# Altium integrated library IR Rectifier - Schottky.IntLib: 340 symbols (part 3 of 6)
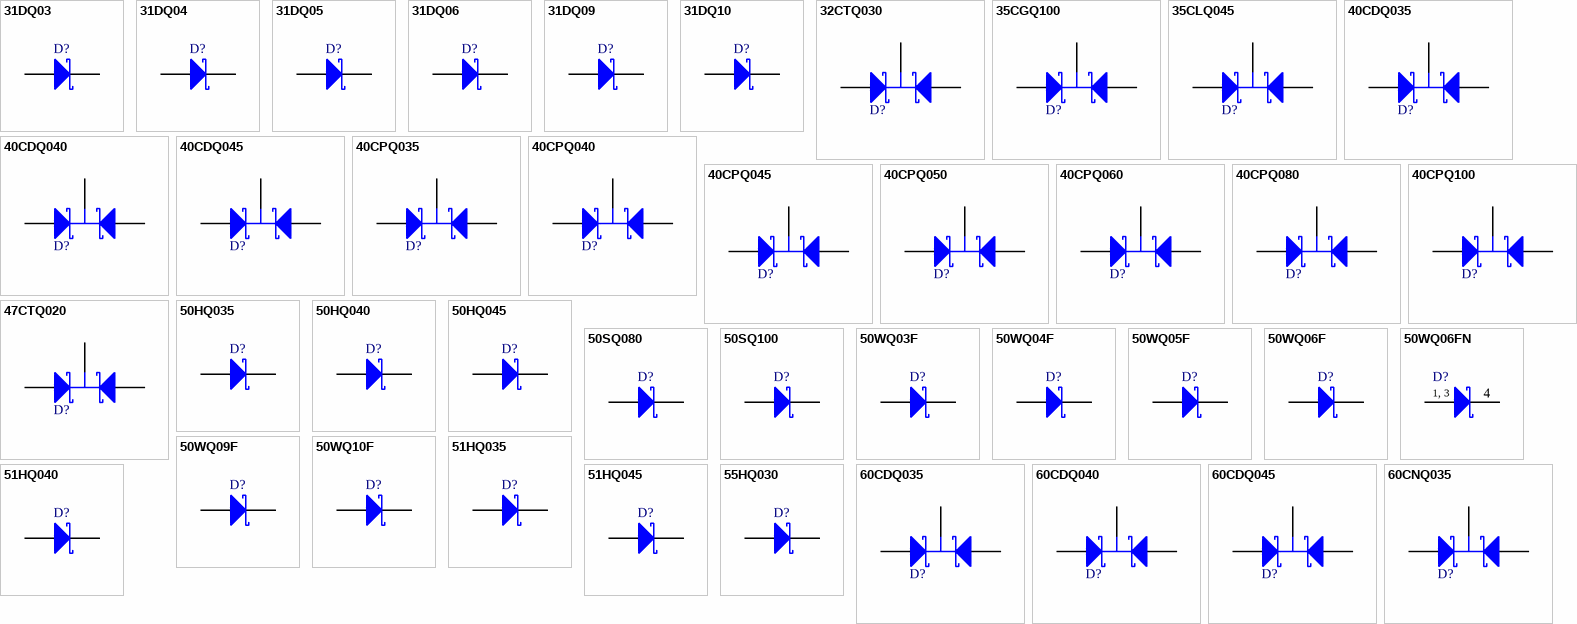
[diagram p10: symbols 31DQ03 to 60CNQ035]

## 40CDQ040
designator D?
Schottky Rectifier; Published: 8-Jun-2000; LatestRevisionDate: 17-Jul-2002; LatestRevisionNote: Re-released for DXP Platform.; DatasheetVersion: Dec-1997; PackageVersion: Dec-1997; PackageReference: TO-204AA; Publisher: Altium Limited; PackageDescription: Oval Flange Mount with (2) Offset Leads; Pin Spacing 10.92 mm; Lead Dia. 1.07 mm (max); Code_JEDEC: TO-204AA; ComponentLink1Description: Manufacturer Link; ComponentLink1URL: http://www.irf.com/; ComponentLink2Description: Datasheet; ComponentLink2URL: http://www.irf.com/product-info/datasheets/data/40cdq.pdf
footprint TO-204AA (Oval Flange Mount with (2) Offset Leads; Pin Spacing 10.92 mm; Lead Dia. 1.07 mm (max))
simulation model 40CDQ040 (SUBCKT)
signal-integrity model 40CDQ040
pins: 1 A1, 2 A2, 3 K

## 40CDQ045
designator D?
Schottky Rectifier; Published: 8-Jun-2000; LatestRevisionDate: 17-Jul-2002; LatestRevisionNote: Re-released for DXP Platform.; DatasheetVersion: Dec-1997; PackageVersion: Dec-1997; PackageReference: TO-204AA; Publisher: Altium Limited; PackageDescription: Oval Flange Mount with (2) Offset Leads; Pin Spacing 10.92 mm; Lead Dia. 1.07 mm (max); Code_JEDEC: TO-204AA; ComponentLink1Description: Manufacturer Link; ComponentLink1URL: http://www.irf.com/; ComponentLink2Description: Datasheet; ComponentLink2URL: http://www.irf.com/product-info/datasheets/data/40cdq.pdf
footprint TO-204AA (Oval Flange Mount with (2) Offset Leads; Pin Spacing 10.92 mm; Lead Dia. 1.07 mm (max))
simulation model 40CDQ045 (SUBCKT)
signal-integrity model 40CDQ045
pins: 1 A1, 2 A2, 3 K

## 40CPQ035
designator D?
Schottky Rectifier; Published: 8-Jun-2000; LatestRevisionDate: 17-Jul-2002; LatestRevisionNote: Re-released for DXP Platform.; DatasheetVersion: Dec-1997; PackageVersion: Aug-1997; PackageReference: TO-247AC; Publisher: Altium Limited; PackageDescription: SIP with Mounting Hole; 3 Leads; Body 20 x 15.6 x 5 mm (typ); Pitch 5.45 mm; Code_JEDEC: TO-247-AC; ComponentLink1Description: Manufacturer Link; ComponentLink1URL: http://www.irf.com/; ComponentLink2Description: Datasheet; ComponentLink2URL: http://www.irf.com/product-info/datasheets/data/40cpq035.pdf
footprint TO-247AC (SIP with Mounting Hole; 3 Leads; Body 20 x 15.6 x 5 mm (typ); Pitch 5.45 mm)
signal-integrity model 40CPQ035
pins: 1 A1, 2 K, 3 A2

## 40CPQ040
designator D?
Schottky Rectifier; Published: 8-Jun-2000; LatestRevisionDate: 17-Jul-2002; LatestRevisionNote: Re-released for DXP Platform.; DatasheetVersion: Dec-1997; PackageVersion: Aug-1997; PackageReference: TO-247AC; Publisher: Altium Limited; PackageDescription: SIP with Mounting Hole; 3 Leads; Body 20 x 15.6 x 5 mm (typ); Pitch 5.45 mm; Code_JEDEC: TO-247-AC; ComponentLink1Description: Manufacturer Link; ComponentLink1URL: http://www.irf.com/; ComponentLink2Description: Datasheet; ComponentLink2URL: http://www.irf.com/product-info/datasheets/data/40cpq035.pdf
footprint TO-247AC (SIP with Mounting Hole; 3 Leads; Body 20 x 15.6 x 5 mm (typ); Pitch 5.45 mm)
signal-integrity model 40CPQ040
pins: 1 A1, 2 K, 3 A2

## 40CPQ045
designator D?
Schottky Rectifier; Published: 8-Jun-2000; LatestRevisionDate: 17-Jul-2002; LatestRevisionNote: Re-released for DXP Platform.; DatasheetVersion: Dec-1997; PackageVersion: Aug-1997; PackageReference: TO-247AC; Publisher: Altium Limited; PackageDescription: SIP with Mounting Hole; 3 Leads; Body 20 x 15.6 x 5 mm (typ); Pitch 5.45 mm; Code_JEDEC: TO-247-AC; ComponentLink1Description: Manufacturer Link; ComponentLink1URL: http://www.irf.com/; ComponentLink2Description: Datasheet; ComponentLink2URL: http://www.irf.com/product-info/datasheets/data/40cpq035.pdf
footprint TO-247AC (SIP with Mounting Hole; 3 Leads; Body 20 x 15.6 x 5 mm (typ); Pitch 5.45 mm)
signal-integrity model 40CPQ045
pins: 1 A1, 2 K, 3 A2

## 40CPQ050
designator D?
Schottky Rectifier; Published: 8-Jun-2000; LatestRevisionDate: 17-Jul-2002; LatestRevisionNote: Re-released for DXP Platform.; DatasheetVersion: Dec-1997; PackageVersion: Aug-1997; PackageReference: TO-247AC; Publisher: Altium Limited; PackageDescription: SIP with Mounting Hole; 3 Leads; Body 20 x 15.6 x 5 mm (typ); Pitch 5.45 mm; Code_JEDEC: TO-247-AC; ComponentLink1Description: Manufacturer Link; ComponentLink1URL: http://www.irf.com/; ComponentLink2Description: Datasheet; ComponentLink2URL: http://www.irf.com/product-info/datasheets/data/40cpq050.pdf
footprint TO-247AC (SIP with Mounting Hole; 3 Leads; Body 20 x 15.6 x 5 mm (typ); Pitch 5.45 mm)
signal-integrity model 40CPQ050
pins: 1 A1, 2 K, 3 A2

## 40CPQ060
designator D?
Schottky Rectifier; Published: 8-Jun-2000; LatestRevisionDate: 17-Jul-2002; LatestRevisionNote: Re-released for DXP Platform.; DatasheetVersion: Dec-1997; PackageVersion: Aug-1997; PackageReference: TO-247AC; Publisher: Altium Limited; PackageDescription: SIP with Mounting Hole; 3 Leads; Body 20 x 15.6 x 5 mm (typ); Pitch 5.45 mm; Code_JEDEC: TO-247-AC; ComponentLink1Description: Manufacturer Link; ComponentLink1URL: http://www.irf.com/; ComponentLink2Description: Datasheet; ComponentLink2URL: http://www.irf.com/product-info/datasheets/data/40cpq050.pdf
footprint TO-247AC (SIP with Mounting Hole; 3 Leads; Body 20 x 15.6 x 5 mm (typ); Pitch 5.45 mm)
simulation model 40CPQ060 (SUBCKT)
signal-integrity model 40CPQ060
pins: 1 A1, 2 K, 3 A2

## 40CPQ080
designator D?
Schottky Rectifier; Published: 8-Jun-2000; LatestRevisionDate: 17-Jul-2002; LatestRevisionNote: Re-released for DXP Platform.; DatasheetVersion: Dec-1997; PackageVersion: Aug-1997; PackageReference: TO-247AC; Publisher: Altium Limited; PackageDescription: SIP with Mounting Hole; 3 Leads; Body 20 x 15.6 x 5 mm (typ); Pitch 5.45 mm; Code_JEDEC: TO-247-AC; ComponentLink1Description: Manufacturer Link; ComponentLink1URL: http://www.irf.com/; ComponentLink2Description: Datasheet; ComponentLink2URL: http://www.irf.com/product-info/datasheets/data/40cpq080.pdf
footprint TO-247AC (SIP with Mounting Hole; 3 Leads; Body 20 x 15.6 x 5 mm (typ); Pitch 5.45 mm)
signal-integrity model 40CPQ080
pins: 1 A1, 2 K, 3 A2

## 40CPQ100
designator D?
Schottky Rectifier; Published: 8-Jun-2000; LatestRevisionDate: 17-Jul-2002; LatestRevisionNote: Re-released for DXP Platform.; DatasheetVersion: Dec-1997; PackageVersion: Aug-1997; PackageReference: TO-247AC; Publisher: Altium Limited; PackageDescription: SIP with Mounting Hole; 3 Leads; Body 20 x 15.6 x 5 mm (typ); Pitch 5.45 mm; Code_JEDEC: TO-247-AC; ComponentLink1Description: Manufacturer Link; ComponentLink1URL: http://www.irf.com/; ComponentLink2Description: Datasheet; ComponentLink2URL: http://www.irf.com/product-info/datasheets/data/40cpq080.pdf
footprint TO-247AC (SIP with Mounting Hole; 3 Leads; Body 20 x 15.6 x 5 mm (typ); Pitch 5.45 mm)
signal-integrity model 40CPQ100
pins: 1 A1, 2 K, 3 A2

## 47CTQ020
designator D?
Schottky Rectifier; Note: Pin 2 (cathode) is electrically connected to TAB; Published: 8-Jun-2000; LatestRevisionDate: 17-Jul-2002; LatestRevisionNote: Re-released for DXP Platform.; DatasheetVersion: May-1999; PackageVersion: Feb-1997; PackageReference: TO-220AB; Publisher: Altium Limited; PackageDescription: TO, Thru-Hole, Vertical, Heatsink Mounted; 3 In-Line Leads; Pitch 2.54 mm; ComponentLink1Description: Manufacturer Link; ComponentLink1URL: http://www.irf.com/; ComponentLink2Description: Datasheet; ComponentLink2URL: http://www.irf.com/product-info/datasheets/data/47ctq020.pdf
footprint TO-220AB (TO, Thru-Hole, Vertical, Heatsink Mounted; 3 In-Line Leads; Pitch 2.54 mm)
signal-integrity model 47CTQ020
pins: 1 A1, 2 K, 3 A2

## 50HQ035
designator D?
Schottky Rectifier; Note: No PCB Footprint Available; Published: 8-Jun-2000; LatestRevisionDate: 17-Jul-2002; LatestRevisionNote: Re-released for DXP Platform.; DatasheetVersion: Dec-1997; PackageReference: DO-203AB; Publisher: Altium Limited; ComponentLink1Description: Manufacturer Link; ComponentLink1URL: http://www.irf.com/; ComponentLink2Description: Datasheet; ComponentLink2URL: http://www.irf.com/product-info/datasheets/data/50hq.pdf
simulation model 50HQ035 (DIODE)
signal-integrity model 50HQ035
pins: 1 A, 2 K

## 50HQ040
designator D?
Schottky Rectifier; Note: No PCB Footprint Available; Published: 8-Jun-2000; LatestRevisionDate: 17-Jul-2002; LatestRevisionNote: Re-released for DXP Platform.; DatasheetVersion: Dec-1997; PackageReference: DO-203AB; Publisher: Altium Limited; ComponentLink1Description: Manufacturer Link; ComponentLink1URL: http://www.irf.com/; ComponentLink2Description: Datasheet; ComponentLink2URL: http://www.irf.com/product-info/datasheets/data/50hq.pdf
simulation model 50HQ040 (DIODE)
signal-integrity model 50HQ040
pins: 1 A, 2 K

## 50HQ045
designator D?
Schottky Rectifier; Note: No PCB Footprint Available; Published: 8-Jun-2000; LatestRevisionDate: 17-Jul-2002; LatestRevisionNote: Re-released for DXP Platform.; DatasheetVersion: Dec-1997; PackageReference: DO-203AB; Publisher: Altium Limited; ComponentLink1Description: Manufacturer Link; ComponentLink1URL: http://www.irf.com/; ComponentLink2Description: Datasheet; ComponentLink2URL: http://www.irf.com/product-info/datasheets/data/50hq.pdf
simulation model 50HQ045 (DIODE)
signal-integrity model 50HQ045
pins: 1 A, 2 K

## 50SQ080
designator D?
Schottky Rectifier; Published: 8-Jun-2000; LatestRevisionDate: 17-Jul-2002; LatestRevisionNote: Re-released for DXP Platform.; DatasheetVersion: Nov-1997; PackageReference: DO-204AR; Publisher: Altium Limited; PackageDescription: Diode, Axial; Body 9.5 x 6.4 mm (LxDia. max), Lead Dia. 1.32 mm (max); Code_JEDEC: DO-204-AR; ComponentLink1Description: Manufacturer Link; ComponentLink1URL: http://www.irf.com/; ComponentLink2Description: Datasheet; ComponentLink2URL: http://www.irf.com/product-info/datasheets/data/50sq.pdf
footprint DO-204AR (Diode, Axial; Body 9.5 x 6.4 mm (LxDia. max), Lead Dia. 1.32 mm (max))
signal-integrity model 50SQ080
pins: 1 A, 2 K

## 50SQ100
designator D?
Schottky Rectifier; Published: 8-Jun-2000; LatestRevisionDate: 17-Jul-2002; LatestRevisionNote: Re-released for DXP Platform.; DatasheetVersion: Nov-1997; PackageReference: DO-204AR; Publisher: Altium Limited; PackageDescription: Diode, Axial; Body 9.5 x 6.4 mm (LxDia. max), Lead Dia. 1.32 mm (max); Code_JEDEC: DO-204-AR; ComponentLink1Description: Manufacturer Link; ComponentLink1URL: http://www.irf.com/; ComponentLink2Description: Datasheet; ComponentLink2URL: http://www.irf.com/product-info/datasheets/data/50sq.pdf
footprint DO-204AR (Diode, Axial; Body 9.5 x 6.4 mm (LxDia. max), Lead Dia. 1.32 mm (max))
signal-integrity model 50SQ100
pins: 1 A, 2 K

## 50WQ03F
designator D?
Schottky Rectifier; Note: Pin 2 (cathode) is trimmed but is electrically connected to Terminal 4 (BASE); Pin 1 is not connected and not drawn; Published: 8-Jun-2000; LatestRevisionDate: 17-Jul-2002; LatestRevisionNote: Re-released for DXP Platform.; DatasheetVersion: Dec-1997; PackageVersion: Dec-1997; PackageReference: TO-252AA_A; Publisher: Altium Limited; PackageDescription: 3-Pin Transistor Outline Package 2.28 mm Pitch, 9.8 mm Lead Span; ComponentLink1Description: Manufacturer Link; ComponentLink1URL: http://www.irf.com/; ComponentLink2Description: Datasheet; ComponentLink2URL: http://www.irf.com/product-info/datasheets/data/50wq04f.pdf
footprint TO-252AA_A_N (D-PAK, 4-Leads, Body 6.1x6.6mm, Pitch 2.28mm, Lead Span 9.8mm, IPC Medium Density)
footprint TO-252AA_A_L (D-PAK, 4-Leads, Body 6.1x6.6mm, Pitch 2.28mm, Lead Span 9.8mm, IPC High Density)
footprint TO-252AA_A_M (D-PAK, 4-Leads, Body 6.1x6.6mm, Pitch 2.28mm, Lead Span 9.8mm, IPC Low Density)
simulation model 50WQ03F (DIODE)
signal-integrity model 50WQ03F
pins: 3 A, 4 K

## 50WQ04F
designator D?
Schottky Rectifier; Note: Pin 2 (cathode) is trimmed but is electrically connected to Terminal 4 (BASE); Pin 1 is not connected and not drawn; Published: 8-Jun-2000; LatestRevisionDate: 17-Jul-2002; LatestRevisionNote: Re-released for DXP Platform.; DatasheetVersion: Dec-1997; PackageVersion: Dec-1997; PackageReference: TO-252AA_A; Publisher: Altium Limited; PackageDescription: 3-Pin Transistor Outline Package 2.28 mm Pitch, 9.8 mm Lead Span; ComponentLink1Description: Manufacturer Link; ComponentLink1URL: http://www.irf.com/; ComponentLink2Description: Datasheet; ComponentLink2URL: http://www.irf.com/product-info/datasheets/data/50wq04f.pdf
footprint TO-252AA_A_N (D-PAK, 4-Leads, Body 6.1x6.6mm, Pitch 2.28mm, Lead Span 9.8mm, IPC Medium Density)
footprint TO-252AA_A_L (D-PAK, 4-Leads, Body 6.1x6.6mm, Pitch 2.28mm, Lead Span 9.8mm, IPC High Density)
footprint TO-252AA_A_M (D-PAK, 4-Leads, Body 6.1x6.6mm, Pitch 2.28mm, Lead Span 9.8mm, IPC Low Density)
simulation model 50WQ04F (DIODE)
signal-integrity model 50WQ04F
pins: 3 A, 4 K

## 50WQ05F
designator D?
Schottky Rectifier; Note: Pin 2 (cathode) is trimmed but is electrically connected to Terminal 4 (BASE); Pin 1 is not connected and not drawn; Published: 8-Jun-2000; LatestRevisionDate: 17-Jul-2002; LatestRevisionNote: Re-released for DXP Platform.; DatasheetVersion: Dec-1997; PackageVersion: Dec-1997; PackageReference: TO-252AA_A; Publisher: Altium Limited; PackageDescription: 3-Pin Transistor Outline Package 2.28 mm Pitch, 9.8 mm Lead Span; ComponentLink1Description: Manufacturer Link; ComponentLink1URL: http://www.irf.com/; ComponentLink2Description: Datasheet; ComponentLink2URL: http://www.irf.com/product-info/datasheets/data/50wq06f.pdf
footprint TO-252AA_A_N (D-PAK, 4-Leads, Body 6.1x6.6mm, Pitch 2.28mm, Lead Span 9.8mm, IPC Medium Density)
footprint TO-252AA_A_L (D-PAK, 4-Leads, Body 6.1x6.6mm, Pitch 2.28mm, Lead Span 9.8mm, IPC High Density)
footprint TO-252AA_A_M (D-PAK, 4-Leads, Body 6.1x6.6mm, Pitch 2.28mm, Lead Span 9.8mm, IPC Low Density)
simulation model 50WQ05F (DIODE)
signal-integrity model 50WQ05F
pins: 3 A, 4 K

## 50WQ06F
designator D?
Schottky Rectifier; Note: Pin 2 (cathode) is trimmed but is electrically connected to Terminal 4 (BASE); Pin 1 is not connected and not drawn; Published: 8-Jun-2000; LatestRevisionDate: 17-Jul-2002; LatestRevisionNote: Re-released for DXP Platform.; DatasheetVersion: Dec-1997; PackageVersion: Dec-1997; PackageReference: TO-252AA_A; Publisher: Altium Limited; PackageDescription: 3-Pin Transistor Outline Package 2.28 mm Pitch, 9.8 mm Lead Span; ComponentLink1Description: Manufacturer Link; ComponentLink1URL: http://www.irf.com/; ComponentLink2Description: Datasheet; ComponentLink2URL: http://www.irf.com/product-info/datasheets/data/50wq06f.pdf
footprint TO-252AA_A_N (D-PAK, 4-Leads, Body 6.1x6.6mm, Pitch 2.28mm, Lead Span 9.8mm, IPC Medium Density)
footprint TO-252AA_A_L (D-PAK, 4-Leads, Body 6.1x6.6mm, Pitch 2.28mm, Lead Span 9.8mm, IPC High Density)
footprint TO-252AA_A_M (D-PAK, 4-Leads, Body 6.1x6.6mm, Pitch 2.28mm, Lead Span 9.8mm, IPC Low Density)
simulation model 50WQ06F (DIODE)
signal-integrity model 50WQ06F
pins: 3 A, 4 K

## 50WQ06FN
designator D?
Schottky Rectifier; Note: Pin 2 is trimmed and not drawn; Published: 17-Sep-2003; LatestRevisionDate: 06-Jun-2005; LatestRevisionNote: Sch symbol re-drawn; DatasheetVersion: revE, Mar-2003; PackageVersion: Feb-2003; PackageReference: TO-252AA; Publisher: Altium Limited; PackageDescription: 3-Pin HEXFET Package 2.28 mm Pitch, 9.9 mm Lead Span; Code_JEDEC: TO-252-AA; ComponentLink1Description: Manufacturer Link; ComponentLink1URL: http://www.irf.com/; ComponentLink2Description: Datasheet; ComponentLink2URL: http://www.irf.com/product-info/datasheets/data/50WQ06FN.pdf
footprint TO-252AA_N (D-PAK, 4-Leads, Body 6.1x6.5mm, Pitch 2.28mm, Lead Span 9.9mm, IPC Medium Density)
footprint TO-252AA_L (D-PAK, 4-Leads, Body 6.1x6.5mm, Pitch 2.28mm, Lead Span 9.9mm, IPC High Density)
footprint TO-252AA_M (D-PAK, 4-Leads, Body 6.1x6.5mm, Pitch 2.28mm, Lead Span 9.9mm, IPC Low Density)
simulation model 50WQ06FN (SUBCKT)
pins: 1 A, 3 A, 4 K
text: 1, 3

## 50WQ09F
designator D?
Schottky Rectifier; Note: Pin 2 (cathode) is trimmed but is electrically connected to Terminal 4 (BASE); Pin 1 is not connected and not drawn; Published: 8-Jun-2000; LatestRevisionDate: 17-Jul-2002; LatestRevisionNote: Re-released for DXP Platform.; DatasheetVersion: Dec-1997; PackageVersion: Dec-1997; PackageReference: TO-252AA_A; Publisher: Altium Limited; PackageDescription: 3-Pin Transistor Outline Package 2.28 mm Pitch, 9.8 mm Lead Span; ComponentLink1Description: Manufacturer Link; ComponentLink1URL: http://www.irf.com/; ComponentLink2Description: Datasheet; ComponentLink2URL: http://www.irf.com/product-info/datasheets/data/50wq10f.pdf
footprint TO-252AA_A_N (D-PAK, 4-Leads, Body 6.1x6.6mm, Pitch 2.28mm, Lead Span 9.8mm, IPC Medium Density)
footprint TO-252AA_A_L (D-PAK, 4-Leads, Body 6.1x6.6mm, Pitch 2.28mm, Lead Span 9.8mm, IPC High Density)
footprint TO-252AA_A_M (D-PAK, 4-Leads, Body 6.1x6.6mm, Pitch 2.28mm, Lead Span 9.8mm, IPC Low Density)
simulation model 50WQ09F (DIODE)
signal-integrity model 50WQ09F
pins: 3 A, 4 K

## 50WQ10F
designator D?
Schottky Rectifier; Note: Pin 2 (cathode) is trimmed but is electrically connected to Terminal 4 (BASE); Pin 1 is not connected and not drawn; Published: 8-Jun-2000; LatestRevisionDate: 17-Jul-2002; LatestRevisionNote: Re-released for DXP Platform.; DatasheetVersion: Dec-1997; PackageVersion: Dec-1997; PackageReference: TO-252AA_A; Publisher: Altium Limited; PackageDescription: 3-Pin Transistor Outline Package 2.28 mm Pitch, 9.8 mm Lead Span; ComponentLink1Description: Manufacturer Link; ComponentLink1URL: http://www.irf.com/; ComponentLink2Description: Datasheet; ComponentLink2URL: http://www.irf.com/product-info/datasheets/data/50wq10f.pdf
footprint TO-252AA_A_N (D-PAK, 4-Leads, Body 6.1x6.6mm, Pitch 2.28mm, Lead Span 9.8mm, IPC Medium Density)
footprint TO-252AA_A_L (D-PAK, 4-Leads, Body 6.1x6.6mm, Pitch 2.28mm, Lead Span 9.8mm, IPC High Density)
footprint TO-252AA_A_M (D-PAK, 4-Leads, Body 6.1x6.6mm, Pitch 2.28mm, Lead Span 9.8mm, IPC Low Density)
simulation model 50WQ10F (DIODE)
signal-integrity model 50WQ10F
pins: 3 A, 4 K

## 51HQ035
designator D?
Schottky Rectifier; Note: No PCB Footprint Available; Published: 8-Jun-2000; LatestRevisionDate: 17-Jul-2002; LatestRevisionNote: Re-released for DXP Platform.; DatasheetVersion: Dec-1997; PackageReference: DO-203AB; Publisher: Altium Limited; ComponentLink1Description: Manufacturer Link; ComponentLink1URL: http://www.irf.com/; ComponentLink2Description: Datasheet; ComponentLink2URL: http://www.irf.com/product-info/datasheets/data/51hq.pdf
simulation model 51HQ035 (DIODE)
signal-integrity model 51HQ035
pins: 1 A, 2 K

## 51HQ040
designator D?
Schottky Rectifier; Note: No PCB Footprint Available; Published: 8-Jun-2000; LatestRevisionDate: 17-Jul-2002; LatestRevisionNote: Re-released for DXP Platform.; DatasheetVersion: Dec-1997; PackageReference: DO-203AB; Publisher: Altium Limited; ComponentLink1Description: Manufacturer Link; ComponentLink1URL: http://www.irf.com/; ComponentLink2Description: Datasheet; ComponentLink2URL: http://www.irf.com/product-info/datasheets/data/51hq.pdf
simulation model 51HQ040 (DIODE)
signal-integrity model 51HQ040
pins: 1 A, 2 K

## 51HQ045
designator D?
Schottky Rectifier; Note: No PCB Footprint Available; Published: 8-Jun-2000; LatestRevisionDate: 17-Jul-2002; LatestRevisionNote: Re-released for DXP Platform.; DatasheetVersion: Dec-1997; PackageReference: DO-203AB; Publisher: Altium Limited; ComponentLink1Description: Manufacturer Link; ComponentLink1URL: http://www.irf.com/; ComponentLink2Description: Datasheet; ComponentLink2URL: http://www.irf.com/product-info/datasheets/data/51hq.pdf
simulation model 51HQ045 (DIODE)
signal-integrity model 51HQ045
pins: 1 A, 2 K

## 55HQ030
designator D?
Schottky Rectifier; Note: No PCB Footprint Available; Published: 8-Jun-2000; LatestRevisionDate: 17-Jul-2002; LatestRevisionNote: Re-released for DXP Platform.; DatasheetVersion: Dec-1997; PackageReference: DO-203AB; Publisher: Altium Limited; ComponentLink1Description: Manufacturer Link; ComponentLink1URL: http://www.irf.com/; ComponentLink2Description: Datasheet; ComponentLink2URL: http://www.irf.com/product-info/datasheets/data/55hq030.pdf
simulation model 55HQ030 (DIODE)
signal-integrity model 55HQ030
pins: 1 A, 2 K

## 60CDQ035
designator D?
Schottky Rectifier; Published: 8-Jun-2000; LatestRevisionDate: 17-Jul-2002; LatestRevisionNote: Re-released for DXP Platform.; DatasheetVersion: Dec-1997; PackageReference: TO-204AE; Publisher: Altium Limited; PackageDescription: Oval Flange Mount with (2) Offset Leads; Pin Spacing 10.92 mm; Lead Dia. 1.57 mm (max); Code_JEDEC: TO-204AE; ComponentLink1Description: Manufacturer Link; ComponentLink1URL: http://www.irf.com/; ComponentLink2Description: Datasheet; ComponentLink2URL: http://www.irf.com/product-info/datasheets/data/60cdq.pdf
footprint TO-204AE (Oval Flange Mount with (2) Offset Leads; Pin Spacing 10.92 mm; Lead Dia. 1.57 mm (max))
simulation model 60CDQ035 (SUBCKT)
signal-integrity model 60CDQ035
pins: 1 A1, 2 A2, 3 K

## 60CDQ040
designator D?
Schottky Rectifier; Published: 8-Jun-2000; LatestRevisionDate: 17-Jul-2002; LatestRevisionNote: Re-released for DXP Platform.; DatasheetVersion: Dec-1997; PackageReference: TO-204AE; Publisher: Altium Limited; PackageDescription: Oval Flange Mount with (2) Offset Leads; Pin Spacing 10.92 mm; Lead Dia. 1.57 mm (max); Code_JEDEC: TO-204AE; ComponentLink1Description: Manufacturer Link; ComponentLink1URL: http://www.irf.com/; ComponentLink2Description: Datasheet; ComponentLink2URL: http://www.irf.com/product-info/datasheets/data/60cdq.pdf
footprint TO-204AE (Oval Flange Mount with (2) Offset Leads; Pin Spacing 10.92 mm; Lead Dia. 1.57 mm (max))
simulation model 60CDQ040 (SUBCKT)
signal-integrity model 60CDQ040
pins: 1 A1, 2 A2, 3 K

## 60CDQ045
designator D?
Schottky Rectifier; Published: 8-Jun-2000; LatestRevisionDate: 17-Jul-2002; LatestRevisionNote: Re-released for DXP Platform.; DatasheetVersion: Dec-1997; PackageReference: TO-204AE; Publisher: Altium Limited; PackageDescription: Oval Flange Mount with (2) Offset Leads; Pin Spacing 10.92 mm; Lead Dia. 1.57 mm (max); Code_JEDEC: TO-204AE; ComponentLink1Description: Manufacturer Link; ComponentLink1URL: http://www.irf.com/; ComponentLink2Description: Datasheet; ComponentLink2URL: http://www.irf.com/product-info/datasheets/data/60cdq.pdf
footprint TO-204AE (Oval Flange Mount with (2) Offset Leads; Pin Spacing 10.92 mm; Lead Dia. 1.57 mm (max))
simulation model 60CDQ045 (SUBCKT)
signal-integrity model 60CDQ045
pins: 1 A1, 2 A2, 3 K

## 60CNQ035
designator D?
Schottky Rectifier; Note: Pin 2 (cathode) is electrically connected to BASE; Published: 8-Jun-2000; LatestRevisionDate: 17-Jul-2002; LatestRevisionNote: Re-released for DXP Platform.; DatasheetVersion: Dec-1997; PackageReference: D-61-6; Publisher: Altium Limited; PackageDescription: Rectangular Flange Mount, Thru-Hole; 3 Leads; Pitch 5.08 mm; ComponentLink1Description: Manufacturer Link; ComponentLink1URL: http://www.irf.com/; ComponentLink2Description: Datasheet; ComponentLink2URL: http://www.irf.com/product-info/datasheets/data/60cnq.pdf
footprint D-61-6 (Rectangular Flange Mount, Thru-Hole; 3 Leads; Pitch 5.08 mm)
signal-integrity model 60CNQ035
pins: 1 A1, 2 K, 3 A2

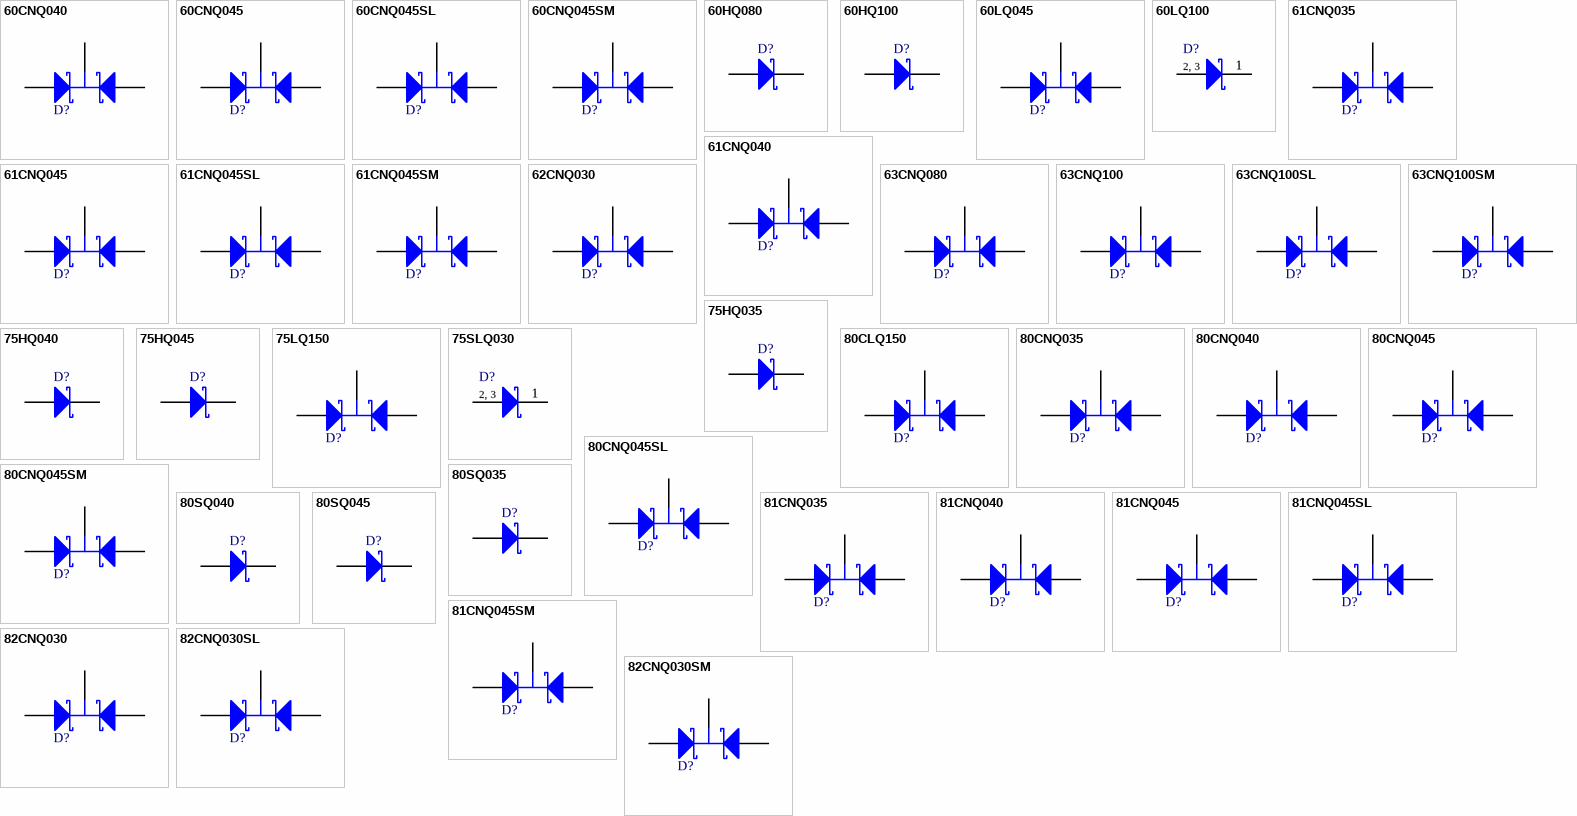
[diagram p4: symbols 60CNQ040 to 82CNQ030SM]

## 60CNQ040
designator D?
Schottky Rectifier; Note: Pin 2 (cathode) is electrically connected to BASE; Published: 8-Jun-2000; LatestRevisionDate: 17-Jul-2002; LatestRevisionNote: Re-released for DXP Platform.; DatasheetVersion: Dec-1997; PackageReference: D-61-6; Publisher: Altium Limited; PackageDescription: Rectangular Flange Mount, Thru-Hole; 3 Leads; Pitch 5.08 mm; ComponentLink1Description: Manufacturer Link; ComponentLink1URL: http://www.irf.com/; ComponentLink2Description: Datasheet; ComponentLink2URL: http://www.irf.com/product-info/datasheets/data/60cnq.pdf
footprint D-61-6 (Rectangular Flange Mount, Thru-Hole; 3 Leads; Pitch 5.08 mm)
signal-integrity model 60CNQ040
pins: 1 A1, 2 K, 3 A2

## 60CNQ045
designator D?
Schottky Rectifier; Note: Pin 2 (cathode) is electrically connected to BASE; Published: 8-Jun-2000; LatestRevisionDate: 17-Jul-2002; LatestRevisionNote: Re-released for DXP Platform.; DatasheetVersion: Dec-1997; PackageReference: D-61-6; Publisher: Altium Limited; PackageDescription: Rectangular Flange Mount, Thru-Hole; 3 Leads; Pitch 5.08 mm; ComponentLink1Description: Manufacturer Link; ComponentLink1URL: http://www.irf.com/; ComponentLink2Description: Datasheet; ComponentLink2URL: http://www.irf.com/product-info/datasheets/data/60cnq.pdf
footprint D-61-6 (Rectangular Flange Mount, Thru-Hole; 3 Leads; Pitch 5.08 mm)
signal-integrity model 60CNQ045
pins: 1 A1, 2 K, 3 A2

## 60CNQ045SL
designator D?
Schottky Rectifier; Note: Pin 2 (cathode) is trimmed but is electrically connected to BASE; Published: 8-Jun-2000; LatestRevisionDate: 17-Jul-2002; LatestRevisionNote: Re-released for DXP Platform.; DatasheetVersion: Aug-1995; PackageVersion: Aug-1995; PackageReference: SLD61-6; Publisher: Altium Limited; PackageDescription: 3-Pin Transistor Outline Package 5.08 mm Pitch, 14.1 mm Lead Span; ComponentLink1Description: Manufacturer Link; ComponentLink1URL: http://www.irf.com/
footprint SLD61-6_N (Single-Ended SM Package, 4-Leads, Body 9.5x16mm, Pitch 5.08mm, Lead Span 14.1mm, IPC Medium Density)
footprint SLD61-6_L (Single-Ended SM Package, 4-Leads, Body 9.5x16mm, Pitch 5.08mm, Lead Span 14.1mm, IPC High Density)
footprint SLD61-6_M (Single-Ended SM Package, 4-Leads, Body 9.5x16mm, Pitch 5.08mm, Lead Span 14.1mm, IPC Low Density)
signal-integrity model 60CNQ045SL
pins: 1 A1, 2 K, 3 A2

## 60CNQ045SM
designator D?
Schottky Rectifier; Note: Pin 2 (cathode) is electrically connected to BASE; Published: 8-Jun-2000; LatestRevisionDate: 17-Jul-2002; LatestRevisionNote: Re-released for DXP Platform.; DatasheetVersion: Aug-1995; PackageReference: SMD61-6; Publisher: Altium Limited; PackageDescription: Rectangular Flange Mount, Thru-Hole; 3 Leads; Pitch 5.08 mm; ComponentLink1Description: Manufacturer Link; ComponentLink1URL: http://www.irf.com/
footprint SMD61-6 (Rectangular Flange Mount, Thru-Hole; 3 Leads; Pitch 5.08 mm)
signal-integrity model 60CNQ045SM
pins: 1 A1, 2 K, 3 A2

## 60HQ080
designator D?
Schottky Rectifier; Note: No PCB Footprint Available; Published: 8-Jun-2000; LatestRevisionDate: 17-Jul-2002; LatestRevisionNote: Re-released for DXP Platform.; DatasheetVersion: Dec-1997; PackageReference: DO-203AB; Publisher: Altium Limited; ComponentLink1Description: Manufacturer Link; ComponentLink1URL: http://www.irf.com/; ComponentLink2Description: Datasheet; ComponentLink2URL: http://www.irf.com/product-info/datasheets/data/60hq.pdf
simulation model 60HQ080 (DIODE)
signal-integrity model 60HQ080
pins: 1 A, 2 K

## 60HQ100
designator D?
Schottky Rectifier; Note: No PCB Footprint Available; Published: 8-Jun-2000; LatestRevisionDate: 17-Jul-2002; LatestRevisionNote: Re-released for DXP Platform.; DatasheetVersion: Dec-1997; PackageReference: DO-203AB; Publisher: Altium Limited; ComponentLink1Description: Manufacturer Link; ComponentLink1URL: http://www.irf.com/; ComponentLink2Description: Datasheet; ComponentLink2URL: http://www.irf.com/product-info/datasheets/data/60hq.pdf
simulation model 60HQ100 (DIODE)
signal-integrity model 60HQ100
pins: 1 A, 2 K

## 60LQ045
designator D?
Schottky Rectifier; Published: 17-Sep-2003; LatestRevisionDate: 04-Jan-2011; LatestRevisionNote: PCB pads 2 & 3 swapped.; DatasheetVersion: 20-Mar-2002; PackageVersion: Jan-2003; PackageReference: SMD-1; Publisher: Altium Limited; PackageDescription: SM; 3 Leadless Terminals; Body 15.88 x 11.43 x 3.58 mm (LxWxH); ComponentLink1Description: Manufacturer Link; ComponentLink1URL: http://www.irf.com/; ComponentLink2Description: Datasheet; ComponentLink2URL: http://www.irf.com/product-info/datasheets/data/60LQ045.pdf
footprint SMD-1 (SM; 3 Leadless Terminals; Body 15.88 x 11.43 x 3.58 mm (LxWxH))
simulation model 60LQ045 (SUBCKT)
pins: 1 K, 2 A1, 3 A2

## 60LQ100
designator D?
Schottky Rectifier; Published: 17-Sep-2003; LatestRevisionDate: 04-Jan-2011; LatestRevisionNote: PCB pads 2 & 3 swapped.; DatasheetVersion: PD-20505A; PackageVersion: Jan-2003; PackageReference: SMD-1; Publisher: Altium Limited; PackageDescription: SM; 3 Leadless Terminals; Body 15.88 x 11.43 x 3.58 mm (LxWxH); ComponentLink1Description: Manufacturer Link; ComponentLink1URL: http://www.irf.com/; ComponentLink2Description: Datasheet; ComponentLink2URL: http://www.irf.com/product-info/datasheets/data/60LQ100.pdf
footprint SMD-1 (SM; 3 Leadless Terminals; Body 15.88 x 11.43 x 3.58 mm (LxWxH))
simulation model 60LQ100 (DIODE)
pins: 1 K, 2 A1, 3 A2
text: 2, 3

## 61CNQ035
designator D?
Schottky Rectifier; Note: Pin 2 (cathode) is electrically connected to BASE; Published: 8-Jun-2000; LatestRevisionDate: 17-Jul-2002; LatestRevisionNote: Re-released for DXP Platform.; DatasheetVersion: Dec-1997; PackageReference: D-61-6; Publisher: Altium Limited; PackageDescription: Rectangular Flange Mount, Thru-Hole; 3 Leads; Pitch 5.08 mm; ComponentLink1Description: Manufacturer Link; ComponentLink1URL: http://www.irf.com/; ComponentLink2Description: Datasheet; ComponentLink2URL: http://www.irf.com/product-info/datasheets/data/61cnq.pdf
footprint D-61-6 (Rectangular Flange Mount, Thru-Hole; 3 Leads; Pitch 5.08 mm)
signal-integrity model 61CNQ035
pins: 1 A1, 2 K, 3 A2

## 61CNQ040
designator D?
Schottky Rectifier; Note: Pin 2 (cathode) is electrically connected to BASE; Published: 8-Jun-2000; LatestRevisionDate: 17-Jul-2002; LatestRevisionNote: Re-released for DXP Platform.; DatasheetVersion: Dec-1997; PackageReference: D-61-6; Publisher: Altium Limited; PackageDescription: Rectangular Flange Mount, Thru-Hole; 3 Leads; Pitch 5.08 mm; ComponentLink1Description: Manufacturer Link; ComponentLink1URL: http://www.irf.com/; ComponentLink2Description: Datasheet; ComponentLink2URL: http://www.irf.com/product-info/datasheets/data/61cnq.pdf
footprint D-61-6 (Rectangular Flange Mount, Thru-Hole; 3 Leads; Pitch 5.08 mm)
signal-integrity model 61CNQ040
pins: 1 A1, 2 K, 3 A2

## 61CNQ045
designator D?
Schottky Rectifier; Note: Pin 2 (cathode) is electrically connected to BASE; Published: 8-Jun-2000; LatestRevisionDate: 17-Jul-2002; LatestRevisionNote: Re-released for DXP Platform.; DatasheetVersion: Dec-1997; PackageReference: D-61-6; Publisher: Altium Limited; PackageDescription: Rectangular Flange Mount, Thru-Hole; 3 Leads; Pitch 5.08 mm; ComponentLink1Description: Manufacturer Link; ComponentLink1URL: http://www.irf.com/; ComponentLink2Description: Datasheet; ComponentLink2URL: http://www.irf.com/product-info/datasheets/data/61cnq.pdf
footprint D-61-6 (Rectangular Flange Mount, Thru-Hole; 3 Leads; Pitch 5.08 mm)
signal-integrity model 61CNQ045
pins: 1 A1, 2 K, 3 A2

## 61CNQ045SL
designator D?
Schottky Rectifier; Note: Pin 2 (cathode) is trimmed but is electrically connected to BASE; Published: 8-Jun-2000; LatestRevisionDate: 17-Jul-2002; LatestRevisionNote: Re-released for DXP Platform.; DatasheetVersion: Aug-1995; PackageVersion: Aug-1995; PackageReference: SLD61-6; Publisher: Altium Limited; PackageDescription: 3-Pin Transistor Outline Package 5.08 mm Pitch, 14.1 mm Lead Span; ComponentLink1Description: Manufacturer Link; ComponentLink1URL: http://www.irf.com/
footprint SLD61-6_N (Single-Ended SM Package, 4-Leads, Body 9.5x16mm, Pitch 5.08mm, Lead Span 14.1mm, IPC Medium Density)
footprint SLD61-6_L (Single-Ended SM Package, 4-Leads, Body 9.5x16mm, Pitch 5.08mm, Lead Span 14.1mm, IPC High Density)
footprint SLD61-6_M (Single-Ended SM Package, 4-Leads, Body 9.5x16mm, Pitch 5.08mm, Lead Span 14.1mm, IPC Low Density)
signal-integrity model 61CNQ045SL
pins: 1 A1, 2 K, 3 A2

## 61CNQ045SM
designator D?
Schottky Rectifier; Note: Pin 2 (cathode) is electrically connected to BASE; Published: 8-Jun-2000; LatestRevisionDate: 17-Jul-2002; LatestRevisionNote: Re-released for DXP Platform.; DatasheetVersion: Aug-1995; PackageReference: SMD61-6; Publisher: Altium Limited; PackageDescription: Rectangular Flange Mount, Thru-Hole; 3 Leads; Pitch 5.08 mm; ComponentLink1Description: Manufacturer Link; ComponentLink1URL: http://www.irf.com/
footprint SMD61-6 (Rectangular Flange Mount, Thru-Hole; 3 Leads; Pitch 5.08 mm)
signal-integrity model 61CNQ045SM
pins: 1 A1, 2 K, 3 A2

## 62CNQ030
designator D?
Schottky Rectifier; Note: Pin 2 (cathode) is electrically connected to BASE; Published: 8-Jun-2000; LatestRevisionDate: 17-Jul-2002; LatestRevisionNote: Re-released for DXP Platform.; DatasheetVersion: Dec-1997; PackageReference: D-61-6; Publisher: Altium Limited; PackageDescription: Rectangular Flange Mount, Thru-Hole; 3 Leads; Pitch 5.08 mm; ComponentLink1Description: Manufacturer Link; ComponentLink1URL: http://www.irf.com/; ComponentLink2Description: Datasheet; ComponentLink2URL: http://www.irf.com/product-info/datasheets/data/62cnq030.pdf
footprint D-61-6 (Rectangular Flange Mount, Thru-Hole; 3 Leads; Pitch 5.08 mm)
signal-integrity model 62CNQ030
pins: 1 A1, 2 K, 3 A2

## 63CNQ080
designator D?
Schottky Rectifier; Note: Pin 2 (cathode) is electrically connected to BASE; Published: 8-Jun-2000; LatestRevisionDate: 17-Jul-2002; LatestRevisionNote: Re-released for DXP Platform.; DatasheetVersion: Dec-1997; PackageReference: D-61-6; Publisher: Altium Limited; PackageDescription: Rectangular Flange Mount, Thru-Hole; 3 Leads; Pitch 5.08 mm; ComponentLink1Description: Manufacturer Link; ComponentLink1URL: http://www.irf.com/; ComponentLink2Description: Datasheet; ComponentLink2URL: http://www.irf.com/product-info/datasheets/data/63cnq.pdf
footprint D-61-6 (Rectangular Flange Mount, Thru-Hole; 3 Leads; Pitch 5.08 mm)
signal-integrity model 63CNQ080
pins: 1 A1, 2 K, 3 A2

## 63CNQ100
designator D?
Schottky Rectifier; Note: Pin 2 (cathode) is electrically connected to BASE; Published: 8-Jun-2000; LatestRevisionDate: 17-Jul-2002; LatestRevisionNote: Re-released for DXP Platform.; DatasheetVersion: Dec-1997; PackageReference: D-61-6; Publisher: Altium Limited; PackageDescription: Rectangular Flange Mount, Thru-Hole; 3 Leads; Pitch 5.08 mm; ComponentLink1Description: Manufacturer Link; ComponentLink1URL: http://www.irf.com/; ComponentLink2Description: Datasheet; ComponentLink2URL: http://www.irf.com/product-info/datasheets/data/63cnq.pdf
footprint D-61-6 (Rectangular Flange Mount, Thru-Hole; 3 Leads; Pitch 5.08 mm)
signal-integrity model 63CNQ100
pins: 1 A1, 2 K, 3 A2

## 63CNQ100SL
designator D?
Schottky Rectifier; Note: Pin 2 (cathode) is trimmed but is electrically connected to BASE; Published: 8-Jun-2000; LatestRevisionDate: 17-Jul-2002; LatestRevisionNote: Re-released for DXP Platform.; DatasheetVersion: Aug-1995; PackageVersion: Aug-1995; PackageReference: SLD61-6; Publisher: Altium Limited; PackageDescription: 3-Pin Transistor Outline Package 5.08 mm Pitch, 14.1 mm Lead Span; ComponentLink1Description: Manufacturer Link; ComponentLink1URL: http://www.irf.com/
footprint SLD61-6_N (Single-Ended SM Package, 4-Leads, Body 9.5x16mm, Pitch 5.08mm, Lead Span 14.1mm, IPC Medium Density)
footprint SLD61-6_L (Single-Ended SM Package, 4-Leads, Body 9.5x16mm, Pitch 5.08mm, Lead Span 14.1mm, IPC High Density)
footprint SLD61-6_M (Single-Ended SM Package, 4-Leads, Body 9.5x16mm, Pitch 5.08mm, Lead Span 14.1mm, IPC Low Density)
signal-integrity model 63CNQ100SL
pins: 1 A1, 2 K, 3 A2

## 63CNQ100SM
designator D?
Schottky Rectifier; Note: Pin 2 (cathode) is electrically connected to BASE; Published: 8-Jun-2000; LatestRevisionDate: 17-Jul-2002; LatestRevisionNote: Re-released for DXP Platform.; DatasheetVersion: Aug-1995; PackageReference: SMD61-6; Publisher: Altium Limited; PackageDescription: Rectangular Flange Mount, Thru-Hole; 3 Leads; Pitch 5.08 mm; ComponentLink1Description: Manufacturer Link; ComponentLink1URL: http://www.irf.com/
footprint SMD61-6 (Rectangular Flange Mount, Thru-Hole; 3 Leads; Pitch 5.08 mm)
signal-integrity model 63CNQ100SM
pins: 1 A1, 2 K, 3 A2

## 75HQ035
designator D?
Schottky Rectifier; Note: No PCB Footprint Available; Published: 8-Jun-2000; LatestRevisionDate: 17-Jul-2002; LatestRevisionNote: Re-released for DXP Platform.; DatasheetVersion: Dec-1997; PackageReference: DO-203AB; Publisher: Altium Limited; ComponentLink1Description: Manufacturer Link; ComponentLink1URL: http://www.irf.com/; ComponentLink2Description: Datasheet; ComponentLink2URL: http://www.irf.com/product-info/datasheets/data/75hq.pdf
simulation model 75HQ035 (DIODE)
signal-integrity model 75HQ035
pins: 1 A, 2 K

## 75HQ040
designator D?
Schottky Rectifier; Note: No PCB Footprint Available; Published: 8-Jun-2000; LatestRevisionDate: 17-Jul-2002; LatestRevisionNote: Re-released for DXP Platform.; DatasheetVersion: Dec-1997; PackageReference: DO-203AB; Publisher: Altium Limited; ComponentLink1Description: Manufacturer Link; ComponentLink1URL: http://www.irf.com/; ComponentLink2Description: Datasheet; ComponentLink2URL: http://www.irf.com/product-info/datasheets/data/75hq.pdf
simulation model 75HQ040 (DIODE)
signal-integrity model 75HQ040
pins: 1 A, 2 K

## 75HQ045
designator D?
Schottky Rectifier; Note: No PCB Footprint Available; Published: 8-Jun-2000; LatestRevisionDate: 17-Jul-2002; LatestRevisionNote: Re-released for DXP Platform.; DatasheetVersion: Dec-1997; PackageReference: DO-203AB; Publisher: Altium Limited; ComponentLink1Description: Manufacturer Link; ComponentLink1URL: http://www.irf.com/; ComponentLink2Description: Datasheet; ComponentLink2URL: http://www.irf.com/product-info/datasheets/data/75hq.pdf
simulation model 75HQ045 (DIODE)
signal-integrity model 75HQ045
pins: 1 A, 2 K

## 75LQ150
designator D?
Schottky Rectifier; Published: 17-Sep-2003; LatestRevisionDate: 04-Jan-2011; LatestRevisionNote: PCB pads 2 & 3 swapped.; DatasheetVersion: 26-Apr-2002; PackageVersion: Jan-2003; PackageReference: SMD-1; Publisher: Altium Limited; PackageDescription: SM; 3 Leadless Terminals; Body 15.88 x 11.43 x 3.58 mm (LxWxH); ComponentLink1Description: Manufacturer Link; ComponentLink1URL: http://www.irf.com/; ComponentLink2Description: Datasheet; ComponentLink2URL: http://www.irf.com/product-info/datasheets/data/75LQ150.pdf
footprint SMD-1 (SM; 3 Leadless Terminals; Body 15.88 x 11.43 x 3.58 mm (LxWxH))
simulation model 75LQ150 (SUBCKT)
pins: 1 K, 2 A1, 3 A2

## 75SLQ030
designator D?
Schottky Rectifier; Published: 17-Sep-2003; LatestRevisionDate: 04-Jan-2011; LatestRevisionNote: PCB pads 2 & 3 swapped.; DatasheetVersion: 29-Jun-2001; PackageVersion: Jan-2003; PackageReference: SMD-1; Publisher: Altium Limited; PackageDescription: SM; 3 Leadless Terminals; Body 15.88 x 11.43 x 3.58 mm (LxWxH); ComponentLink1Description: Manufacturer Link; ComponentLink1URL: http://www.irf.com/; ComponentLink2Description: Datasheet; ComponentLink2URL: http://www.irf.com/product-info/datasheets/data/75SLQ030.pdf
footprint SMD-1 (SM; 3 Leadless Terminals; Body 15.88 x 11.43 x 3.58 mm (LxWxH))
simulation model 75SLQ030 (DIODE)
pins: 1 K, 2 A1, 3 A2
text: 2, 3

## 80CLQ150
designator D?
Schottky Rectifier; Published: 17-Sep-2003; LatestRevisionDate: 04-Jan-2011; LatestRevisionNote: PCB pads 2 & 3 swapped.; DatasheetVersion: 10-Aug-2001; PackageVersion: Jan-2003; PackageReference: SMD-1; Publisher: Altium Limited; PackageDescription: SM; 3 Leadless Terminals; Body 15.88 x 11.43 x 3.58 mm (LxWxH); ComponentLink1Description: Manufacturer Link; ComponentLink1URL: http://www.irf.com/; ComponentLink2Description: Datasheet; ComponentLink2URL: http://www.irf.com/product-info/datasheets/data/80CLQ150.pdf
footprint SMD-1 (SM; 3 Leadless Terminals; Body 15.88 x 11.43 x 3.58 mm (LxWxH))
simulation model 80CLQ150 (SUBCKT)
pins: 1 K, 2 A1, 3 A2

## 80CNQ035
designator D?
Schottky Rectifier; Note: Pin 2 (cathode) is electrically connected to BASE; Published: 8-Jun-2000; LatestRevisionDate: 17-Jul-2002; LatestRevisionNote: Re-released for DXP Platform.; DatasheetVersion: Jan-1999; PackageVersion: Jan-1999; PackageReference: D61-8; Publisher: Altium Limited; PackageDescription: Rectangular Flange Mount, Thru-Hole; 3 Leads; Pitch 5.08 mm; ComponentLink1Description: Manufacturer Link; ComponentLink1URL: http://www.irf.com/; ComponentLink2Description: Datasheet; ComponentLink2URL: http://www.irf.com/product-info/datasheets/data/80cnq.pdf
footprint D61-8 (Rectangular Flange Mount, Thru-Hole; 3 Leads; Pitch 5.08 mm)
signal-integrity model 80CNQ035
pins: 1 A1, 2 K, 3 A2

## 80CNQ040
designator D?
Schottky Rectifier; Note: Pin 2 (cathode) is electrically connected to BASE; Published: 8-Jun-2000; LatestRevisionDate: 17-Jul-2002; LatestRevisionNote: Re-released for DXP Platform.; DatasheetVersion: Jan-1999; PackageVersion: Jan-1999; PackageReference: D61-8; Publisher: Altium Limited; PackageDescription: Rectangular Flange Mount, Thru-Hole; 3 Leads; Pitch 5.08 mm; ComponentLink1Description: Manufacturer Link; ComponentLink1URL: http://www.irf.com/; ComponentLink2Description: Datasheet; ComponentLink2URL: http://www.irf.com/product-info/datasheets/data/80cnq.pdf
footprint D61-8 (Rectangular Flange Mount, Thru-Hole; 3 Leads; Pitch 5.08 mm)
signal-integrity model 80CNQ040
pins: 1 A1, 2 K, 3 A2

## 80CNQ045
designator D?
Schottky Rectifier; Note: Pin 2 (cathode) is electrically connected to BASE; Published: 8-Jun-2000; LatestRevisionDate: 17-Jul-2002; LatestRevisionNote: Re-released for DXP Platform.; DatasheetVersion: Jan-1999; PackageVersion: Jan-1999; PackageReference: D61-8; Publisher: Altium Limited; PackageDescription: Rectangular Flange Mount, Thru-Hole; 3 Leads; Pitch 5.08 mm; ComponentLink1Description: Manufacturer Link; ComponentLink1URL: http://www.irf.com/; ComponentLink2Description: Datasheet; ComponentLink2URL: http://www.irf.com/product-info/datasheets/data/80cnq.pdf
footprint D61-8 (Rectangular Flange Mount, Thru-Hole; 3 Leads; Pitch 5.08 mm)
signal-integrity model 80CNQ045
pins: 1 A1, 2 K, 3 A2

## 80CNQ045SL
designator D?
Schottky Rectifier; Note: Pin 2 (cathode) is trimmed but is electrically connected to BASE; Published: 8-Jun-2000; LatestRevisionDate: 17-Jul-2002; LatestRevisionNote: Re-released for DXP Platform.; DatasheetVersion: Jan-1999; PackageVersion: Jan-1999; PackageReference: D61-8-SL; Publisher: Altium Limited; PackageDescription: 3-Pin Transistor Outline Package 5.08 mm Pitch, 14.1 mm Lead Span; ComponentLink1Description: Manufacturer Link; ComponentLink1URL: http://www.irf.com/; ComponentLink2Description: Datasheet; ComponentLink2URL: http://www.irf.com/product-info/datasheets/data/80cnq.pdf
footprint D61-8-SL_N (Single-Ended SM Package, 4-Leads, Body 10.6x16mm, Pitch 5.08mm, Lead Span 14.1mm, IPC Medium Density)
footprint D61-8-SL_L (Single-Ended SM Package, 4-Leads, Body 10.6x16mm, Pitch 5.08mm, Lead Span 14.1mm, IPC High Density)
footprint D61-8-SL_M (Single-Ended SM Package, 4-Leads, Body 10.6x16mm, Pitch 5.08mm, Lead Span 14.1mm, IPC Low Density)
signal-integrity model 80CNQ045SL
pins: 1 A1, 2 K, 3 A2

## 80CNQ045SM
designator D?
Schottky Rectifier; Note: Pin 2 (cathode) is electrically connected to BASE; Published: 8-Jun-2000; LatestRevisionDate: 17-Jul-2002; LatestRevisionNote: Re-released for DXP Platform.; DatasheetVersion: Jan-1999; PackageVersion: Jan-1999; PackageReference: D61-8SM; Publisher: Altium Limited; PackageDescription: Rectangular Flange Mount, Thru-Hole; 3 Leads; Pitch 5.08 mm; ComponentLink1Description: Manufacturer Link; ComponentLink1URL: http://www.irf.com/; ComponentLink2Description: Datasheet; ComponentLink2URL: http://www.irf.com/product-info/datasheets/data/80cnq.pdf
footprint D61-8SM (Rectangular Flange Mount, Thru-Hole; 3 Leads; Pitch 5.08 mm)
signal-integrity model 80CNQ045SM
pins: 1 A1, 2 K, 3 A2

## 80SQ035
designator D?
Schottky Rectifier; Published: 8-Jun-2000; LatestRevisionDate: 17-Jul-2002; LatestRevisionNote: Re-released for DXP Platform.; DatasheetVersion: Dec-1997; PackageReference: DO-204AR; Publisher: Altium Limited; PackageDescription: Diode, Axial; Body 9.5 x 6.4 mm (LxDia. max), Lead Dia. 1.32 mm (max); Code_JEDEC: DO-204-AR; ComponentLink1Description: Manufacturer Link; ComponentLink1URL: http://www.irf.com/; ComponentLink2Description: Datasheet; ComponentLink2URL: http://www.irf.com/product-info/datasheets/data/80sq.pdf
footprint DO-204AR (Diode, Axial; Body 9.5 x 6.4 mm (LxDia. max), Lead Dia. 1.32 mm (max))
signal-integrity model 80SQ035
pins: 1 A, 2 K

## 80SQ040
designator D?
Schottky Rectifier; Published: 8-Jun-2000; LatestRevisionDate: 17-Jul-2002; LatestRevisionNote: Re-released for DXP Platform.; DatasheetVersion: Dec-1997; PackageReference: DO-204AR; Publisher: Altium Limited; PackageDescription: Diode, Axial; Body 9.5 x 6.4 mm (LxDia. max), Lead Dia. 1.32 mm (max); Code_JEDEC: DO-204-AR; ComponentLink1Description: Manufacturer Link; ComponentLink1URL: http://www.irf.com/; ComponentLink2Description: Datasheet; ComponentLink2URL: http://www.irf.com/product-info/datasheets/data/80sq.pdf
footprint DO-204AR (Diode, Axial; Body 9.5 x 6.4 mm (LxDia. max), Lead Dia. 1.32 mm (max))
signal-integrity model 80SQ040
pins: 1 A, 2 K

## 80SQ045
designator D?
Schottky Rectifier; Published: 8-Jun-2000; LatestRevisionDate: 17-Jul-2002; LatestRevisionNote: Re-released for DXP Platform.; DatasheetVersion: Dec-1997; PackageReference: DO-204AR; Publisher: Altium Limited; PackageDescription: Diode, Axial; Body 9.5 x 6.4 mm (LxDia. max), Lead Dia. 1.32 mm (max); Code_JEDEC: DO-204-AR; ComponentLink1Description: Manufacturer Link; ComponentLink1URL: http://www.irf.com/; ComponentLink2Description: Datasheet; ComponentLink2URL: http://www.irf.com/product-info/datasheets/data/80sq.pdf
footprint DO-204AR (Diode, Axial; Body 9.5 x 6.4 mm (LxDia. max), Lead Dia. 1.32 mm (max))
signal-integrity model 80SQ045
pins: 1 A, 2 K

## 81CNQ035
designator D?
Schottky Rectifier; Note: Pin 2 (cathode) is electrically connected to BASE; Published: 8-Jun-2000; LatestRevisionDate: 17-Jul-2002; LatestRevisionNote: Re-released for DXP Platform.; DatasheetVersion: Jan-1999; PackageVersion: Jan-1999; PackageReference: D61-8; Publisher: Altium Limited; PackageDescription: Rectangular Flange Mount, Thru-Hole; 3 Leads; Pitch 5.08 mm; ComponentLink1Description: Manufacturer Link; ComponentLink1URL: http://www.irf.com/; ComponentLink2Description: Datasheet; ComponentLink2URL: http://www.irf.com/product-info/datasheets/data/81cnq.pdf
footprint D61-8 (Rectangular Flange Mount, Thru-Hole; 3 Leads; Pitch 5.08 mm)
signal-integrity model 81CNQ035
pins: 1 A1, 2 K, 3 A2

## 81CNQ040
designator D?
Schottky Rectifier; Note: Pin 2 (cathode) is electrically connected to BASE; Published: 8-Jun-2000; LatestRevisionDate: 17-Jul-2002; LatestRevisionNote: Re-released for DXP Platform.; DatasheetVersion: Jan-1999; PackageVersion: Jan-1999; PackageReference: D61-8; Publisher: Altium Limited; PackageDescription: Rectangular Flange Mount, Thru-Hole; 3 Leads; Pitch 5.08 mm; ComponentLink1Description: Manufacturer Link; ComponentLink1URL: http://www.irf.com/; ComponentLink2Description: Datasheet; ComponentLink2URL: http://www.irf.com/product-info/datasheets/data/81cnq.pdf
footprint D61-8 (Rectangular Flange Mount, Thru-Hole; 3 Leads; Pitch 5.08 mm)
signal-integrity model 81CNQ040
pins: 1 A1, 2 K, 3 A2

## 81CNQ045
designator D?
Schottky Rectifier; Note: Pin 2 (cathode) is electrically connected to BASE; Published: 8-Jun-2000; LatestRevisionDate: 17-Jul-2002; LatestRevisionNote: Re-released for DXP Platform.; DatasheetVersion: Jan-1999; PackageVersion: Jan-1999; PackageReference: D61-8; Publisher: Altium Limited; PackageDescription: Rectangular Flange Mount, Thru-Hole; 3 Leads; Pitch 5.08 mm; ComponentLink1Description: Manufacturer Link; ComponentLink1URL: http://www.irf.com/; ComponentLink2Description: Datasheet; ComponentLink2URL: http://www.irf.com/product-info/datasheets/data/81cnq.pdf
footprint D61-8 (Rectangular Flange Mount, Thru-Hole; 3 Leads; Pitch 5.08 mm)
signal-integrity model 81CNQ045
pins: 1 A1, 2 K, 3 A2

## 81CNQ045SL
designator D?
Schottky Rectifier; Note: Pin 2 (cathode) is trimmed but is electrically connected to BASE; Published: 8-Jun-2000; LatestRevisionDate: 17-Jul-2002; LatestRevisionNote: Re-released for DXP Platform.; DatasheetVersion: Jan-1999; PackageVersion: Jan-1999; PackageReference: D61-8-SL; Publisher: Altium Limited; PackageDescription: 3-Pin Transistor Outline Package 5.08 mm Pitch, 14.1 mm Lead Span; ComponentLink1Description: Manufacturer Link; ComponentLink1URL: http://www.irf.com/; ComponentLink2Description: Datasheet; ComponentLink2URL: http://www.irf.com/product-info/datasheets/data/81cnq.pdf
footprint D61-8-SL_N (Single-Ended SM Package, 4-Leads, Body 10.6x16mm, Pitch 5.08mm, Lead Span 14.1mm, IPC Medium Density)
footprint D61-8-SL_L (Single-Ended SM Package, 4-Leads, Body 10.6x16mm, Pitch 5.08mm, Lead Span 14.1mm, IPC High Density)
footprint D61-8-SL_M (Single-Ended SM Package, 4-Leads, Body 10.6x16mm, Pitch 5.08mm, Lead Span 14.1mm, IPC Low Density)
signal-integrity model 81CNQ045SL
pins: 1 A1, 2 K, 3 A2

## 81CNQ045SM
designator D?
Schottky Rectifier; Note: Pin 2 (cathode) is electrically connected to BASE; Published: 8-Jun-2000; LatestRevisionDate: 17-Jul-2002; LatestRevisionNote: Re-released for DXP Platform.; DatasheetVersion: Jan-1999; PackageVersion: Jan-1999; PackageReference: D61-8SM; Publisher: Altium Limited; PackageDescription: Rectangular Flange Mount, Thru-Hole; 3 Leads; Pitch 5.08 mm; ComponentLink1Description: Manufacturer Link; ComponentLink1URL: http://www.irf.com/; ComponentLink2Description: Datasheet; ComponentLink2URL: http://www.irf.com/product-info/datasheets/data/81cnq.pdf
footprint D61-8SM (Rectangular Flange Mount, Thru-Hole; 3 Leads; Pitch 5.08 mm)
signal-integrity model 81CNQ045SM
pins: 1 A1, 2 K, 3 A2